# EAGLE library part MCU (library Layout)
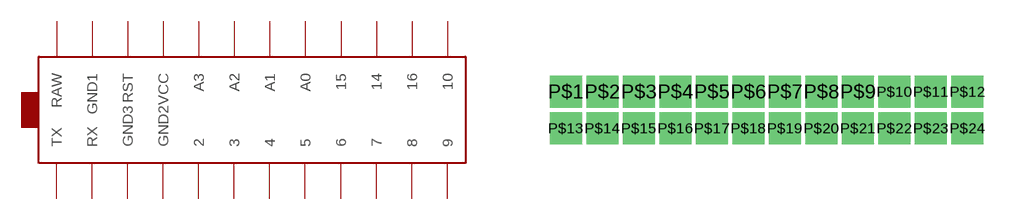
[diagram p0: symbol with the pads of MCU; footprint MCU]

Designator prefix -

## MCU  [MCU]
P$1  2
P$2  3
P$3  4
P$4  5
P$5  6
P$6  7
P$7  8
P$8  9
P$9  10
P$10  14
P$11  15
P$12  16
P$13  A0
P$14  A1
P$15  A2
P$16  A3
P$17  GND1
P$18  GND2
P$19  GND3
P$20  RAW
P$21  RST
P$22  RX
P$23  TX
P$24  VCC

## Footprint MCU (pad centres in mm)
drill 0.6 square: P$1 -17.78,6.35; P$2 -16.51,6.35; P$3 -15.24,6.35; P$4 -13.97,6.35; P$5 -12.7,6.35; P$6 -11.43,6.35; P$7 -10.16,6.35; P$8 -8.89,6.35; P$9 -7.62,6.35; P$10 -6.35,6.35; P$11 -5.08,6.35; P$12 -3.81,6.35; P$13 -17.78,5.08; P$14 -16.51,5.08; P$15 -15.24,5.08; P$16 -13.97,5.08; P$17 -12.7,5.08; P$18 -11.43,5.08; P$19 -10.16,5.08; P$20 -8.89,5.08; P$21 -7.62,5.08; P$22 -6.35,5.08; P$23 -5.08,5.08; P$24 -3.81,5.08